# EAGLE library part IS31FL3731 (library pimoroni-ics)
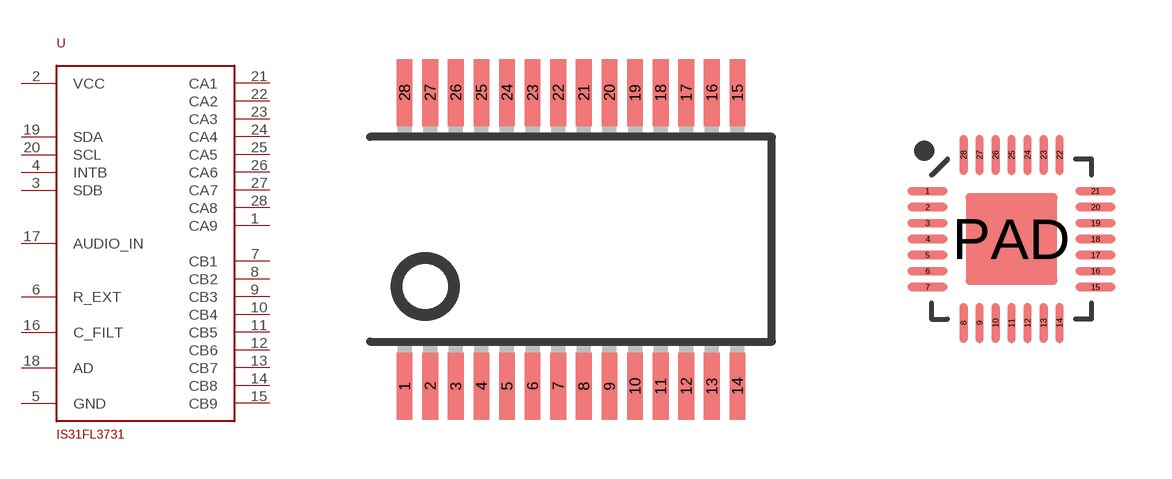
[diagram p44: symbol with the pads of SSOP28; footprints SSOP28, QFN-28-0.4MM]

Designator prefix -

## IS31FL3731-SALS2  [SSOP28]
1  CA9
2  VCC
3  SDB
4  INTB
5  GND
6  R_EXT
7  CB1
8  CB2
9  CB3
10  CB4
11  CB5
12  CB6
13  CB7
14  CB8
15  CB9
16  C_FILT
17  AUDIO_IN
18  AD
19  SDA
20  SCL
21  CA1
22  CA2
23  CA3
24  CA4
25  CA5
26  CA6
27  CA7
28  CA8

## IS31FL3731  [QFN-28-0.4MM]
1  CA9
2  VCC
3  SDB
4  INTB
5  GND
6  R_EXT
7  CB1
8  CB2
9  CB3
10  CB4
11  CB5
12  CB6
13  CB7
14  CB8
15  CB9
16  C_FILT
17  AUDIO_IN
18  AD
19  SDA
20  SCL
21  CA1
22  CA2
23  CA3
24  CA4
25  CA5
26  CA6
27  CA7
28  CA8
PAD  GND

## Footprint SSOP28 (pad centres in mm)
Shrink Small Outline Package package type SS
smd 0.4 x 1.7: 1 -4.225,-3.725; 2 -3.575,-3.725; 3 -2.925,-3.725; 4 -2.275,-3.725; 5 -1.625,-3.725; 6 -0.975,-3.725; 7 -0.325,-3.725; 8 0.325,-3.725; 9 0.975,-3.725; 10 1.625,-3.725; 11 2.275,-3.725; 12 2.925,-3.725; 13 3.575,-3.725; 14 4.225,-3.725; 15 4.225,3.725; 16 3.575,3.725; 17 2.925,3.725; 18 2.275,3.725; 19 1.625,3.725; 20 0.975,3.725; 21 0.325,3.725; 22 -0.325,3.725; 23 -0.975,3.725; 24 -1.625,3.725; 25 -2.275,3.725; 26 -2.925,3.725; 27 -3.575,3.725; 28 -4.225,3.725

## Footprint QFN-28-0.4MM (pad centres in mm)
smd 1 x 0.2: 1 -2.1,1.2; 2 -2.1,0.8; 3 -2.1,0.4; 4 -2.1,0; 5 -2.1,-0.4; 6 -2.1,-0.8; 7 -2.1,-1.2; 15 2.1,-1.2; 16 2.1,-0.8; 17 2.1,-0.4; 18 2.1,0; 19 2.1,0.4; 20 2.1,0.8; 21 2.1,1.2
smd 0.2 x 1: 8 -1.2,-2.1; 9 -0.8,-2.1; 10 -0.4,-2.1; 11 0,-2.1; 12 0.4,-2.1; 13 0.8,-2.1; 14 1.2,-2.1; 22 1.2,2.1; 23 0.8,2.1; 24 0.4,2.1; 25 0,2.1; 26 -0.4,2.1; 27 -0.8,2.1; 28 -1.2,2.1
smd 2.3 x 2.3: PAD 0,0